# EAGLE library part MAX232 (library max232-dip)
RS232 TRANSEIVER
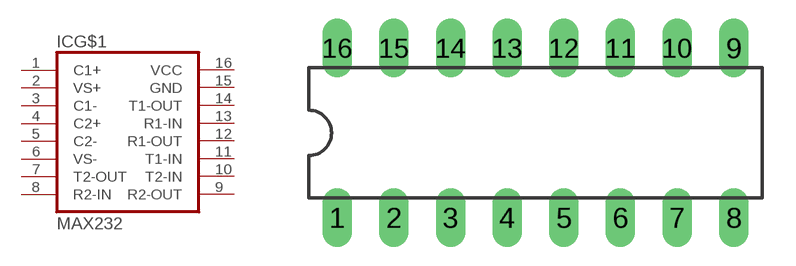
[diagram p0: symbol with the pads of DIL16; footprint DIL16]

Designator prefix IC; gates G$1=MAX232 P=VCC-GND

## MAX232  [DIL16]
1  G$1:C1+
2  G$1:VS+
3  G$1:C1-
4  G$1:C2+
5  G$1:C2-
6  G$1:VS-
7  G$1:T2-OUT  out
8  G$1:R2-IN  in
9  G$1:R2-OUT  out
10  G$1:T2-IN  in
11  G$1:T1-IN  in
12  G$1:R1-OUT  out
13  G$1:R1-IN  in
14  G$1:T1-OUT  out
15  G$1:GND
16  G$1:VCC

## Footprint DIL16 (pad centres in mm)
Dual In Line Package
drill 0.813 long: 1 -8.89,-3.81; 2 -6.35,-3.81; 3 -3.81,-3.81; 4 -1.27,-3.81; 5 1.27,-3.81; 6 3.81,-3.81; 7 6.35,-3.81; 8 8.89,-3.81; 9 8.89,3.81; 10 6.35,3.81; 11 3.81,3.81; 12 1.27,3.81; 13 -1.27,3.81; 14 -3.81,3.81; 15 -6.35,3.81; 16 -8.89,3.81